# EAGLE library part MPX4100A (library MPX4100A)
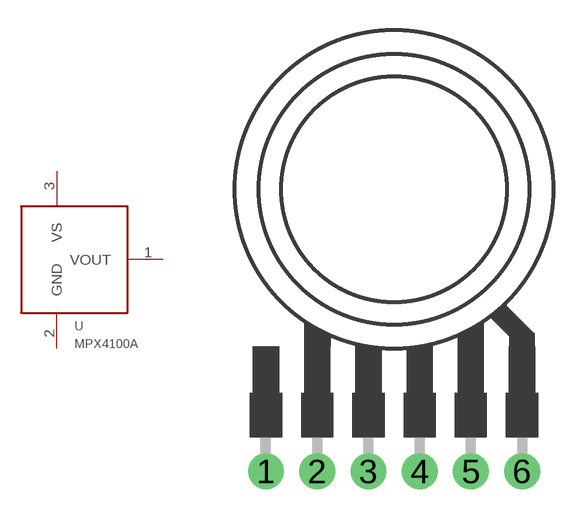
[diagram p0: symbol with the pads of MPX4100A; footprint MPX4100A]

Designator prefix -

## MPX4100A  [MPX4100A]
1  VOUT  out
2  GND  pwr
3  VS  pwr
4  V1  nc
5  V2  nc
6  VEX  nc

## Footprint MPX4100A (pad centres in mm)
drill 0.8 pad 1.778 round: 1 -6.35,-13.995; 2 -3.81,-14; 3 -1.27,-14; 4 1.27,-14; 5 3.81,-14; 6 6.35,-13.995